# Altium footprint library Symbol.PcbLib: 206 footprints (part 15 of 15)
Each footprint in its own frame and in the unit in brackets; x right, y up, seen from the top. Pads: shape width x height; smd on the part's side, far side on the other; paste and mask are expansions set on the pad; w line width, h text height; cw(c..) or ccw(c..) is an arc to the next point about the centre after c.
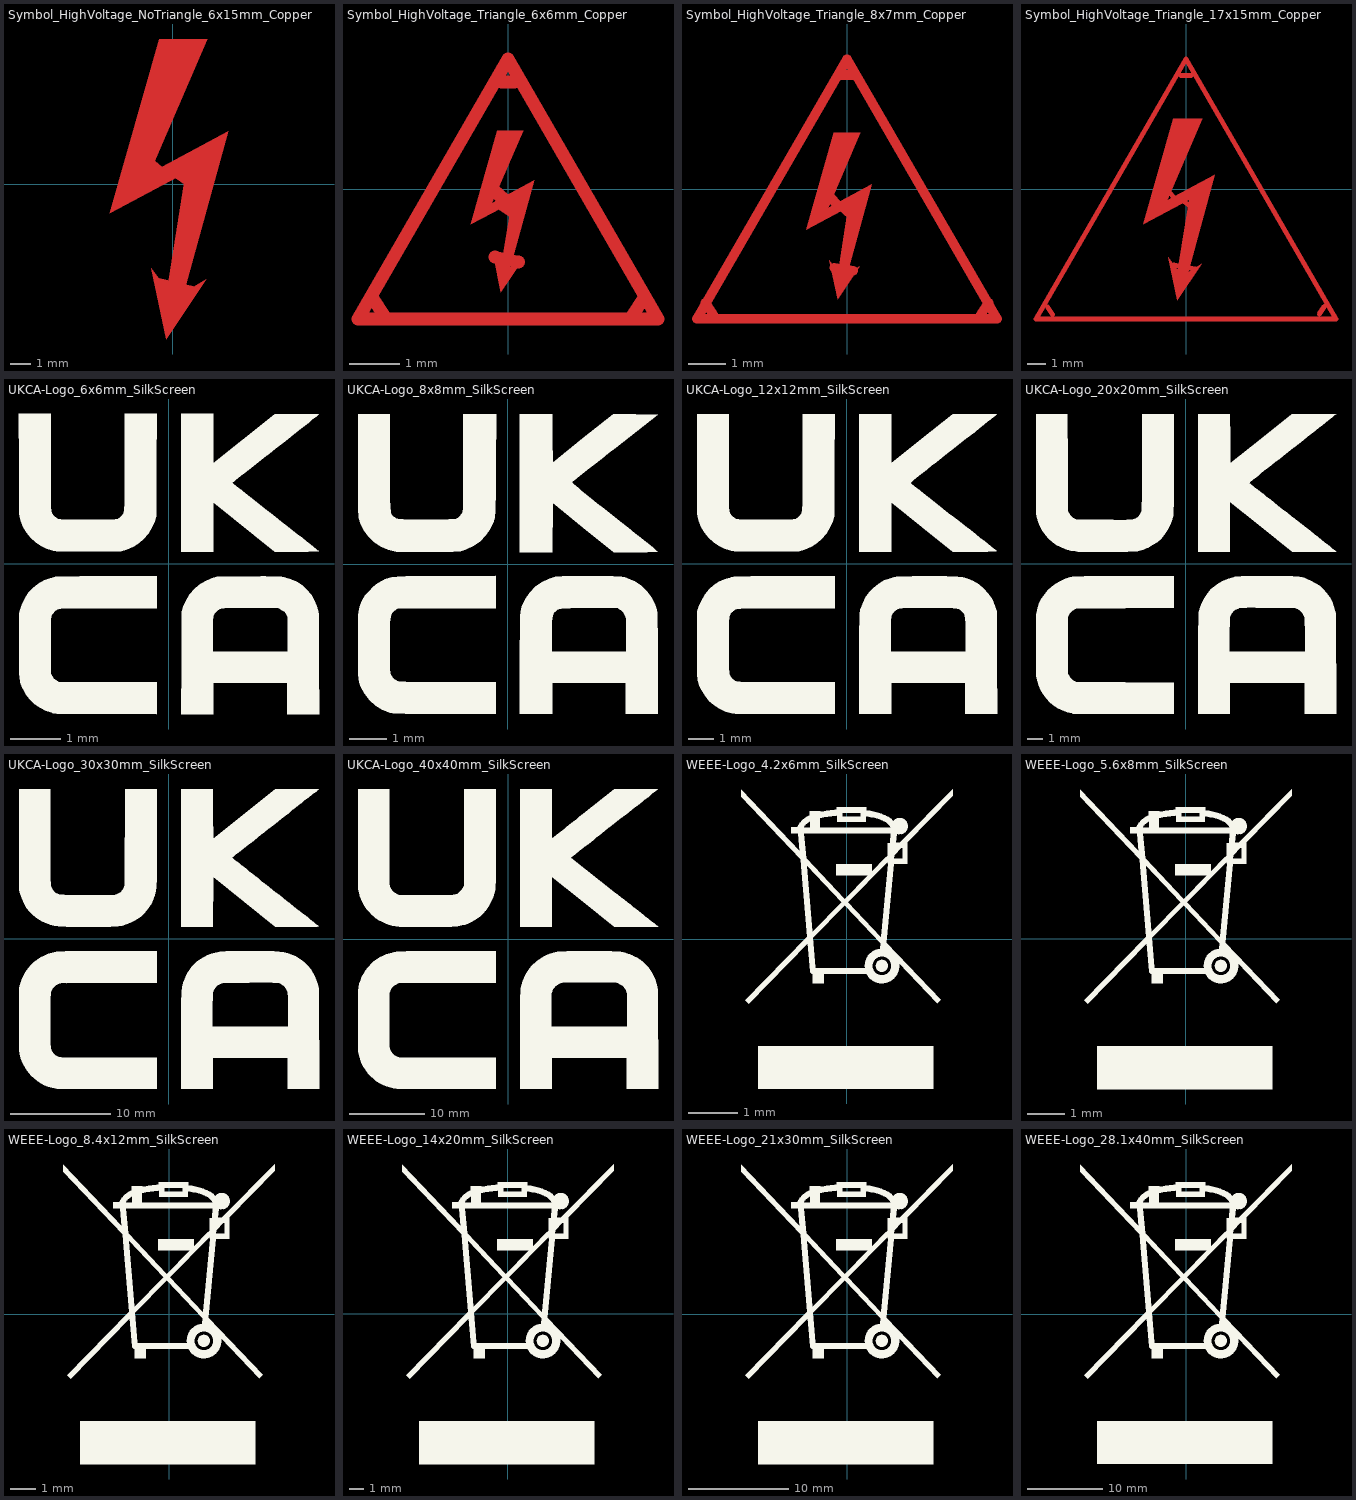
[diagram p14: the footprints below, top view; thin cyan lines are the x and y axes]

## Symbol_HighVoltage_NoTriangle_6x15mm_Copper [mm]
F.Cu:
  region: 1.07,-4.98 -0.333,-7.501 -0.77,-4.54
  region: 0.55,-0.02 0.13,0.28 0.619,0.548
  region: -0.883,1.133 -0.89,1.14 -0.88,1.14
  region: -0.52,0.81 -1.143,0.5 -0.883,1.133
  region: -1.143,0.5 2.667,2.548 0.524,-5.263 1.619,-4.596 -0.333,-7.501 -1.048,-4.072 -0.286,-5.12 0.619,0.548 -3.048,-1.405 -0.667,7.025 1.667,7.025

## Symbol_HighVoltage_Triangle_6x6mm_Copper [mm]
F.Cu:
  region: -0.321,-0.284 0.526,0.171 0.049,-1.565 0.293,-1.416 -0.141,-2.062 -0.3,-1.3 -0.131,-1.533 0.07,-0.273 -0.744,-0.707 -0.215,1.166 0.303,1.166
  lines w0.254: -2.723,-2.155 -2.457,-2.565 ; -0.28,-0.03 -0.08,-0.21 ; -0.26,-1.36 0.21,-1.46 ; -0.135,-0.295 0.115,-0.465 ; -0.125,2.14 0.125,2.14 ; 2.467,-2.565 2.733,-2.155 ; -3,-2.6 0,2.6 3,-2.6 -3,-2.6

## Symbol_HighVoltage_Triangle_8x7mm_Copper [mm]
F.Cu:
  region: -0.5,-0.5 0.664,0.126 0.009,-2.261 0.344,-2.057 -0.253,-2.945 -0.471,-1.897 -0.238,-2.217 0.038,-0.485 -1.082,-1.082 -0.354,1.494 0.359,1.494
  lines w0.254: -3.776,-3.031 -3.51,-3.44 ; -0.45,-0.215 -0.24,-0.44 ; -0.34,-2.095 0.17,-2.185 ; -0.15,3.04 0.16,3.04 ; -0.133,-0.479 0.113,-0.681 ; 3.51,-3.44 3.776,-3.031 ; -4,-3.46 0,3.46 4,-3.46 -4,-3.46

## Symbol_HighVoltage_Triangle_17x15mm_Copper [mm]
F.Cu:
  region: -1,-0.6 1.54,0.765 0.111,-4.442 0.841,-3.997 -0.46,-5.934 -0.937,-3.648 -0.429,-4.346 0.175,-0.568 -2.27,-1.87 -0.683,3.75 0.873,3.75
  lines w0.254: -7.393,-6.285 -7.127,-6.695 ; -0.91,-0.16 -0.63,-0.47 -0.1,-0.66 0.24,-0.93 ; -0.64,-4.05 0.48,-4.27 ; -0.26,6.06 0.26,6.06 ; 7.107,-6.675 7.373,-6.265 ; -8,-6.93 0,6.93 8,-6.93 -8,-6.93

## UKCA-Logo_6x6mm_SilkScreen [mm]
F.SilkS:
  drawing of 4 lines, arcs and shapes, not listed

## UKCA-Logo_8x8mm_SilkScreen [mm]
F.SilkS:
  drawing of 4 lines, arcs and shapes, not listed

## UKCA-Logo_12x12mm_SilkScreen [mm]
F.SilkS:
  drawing of 4 lines, arcs and shapes, not listed

## UKCA-Logo_20x20mm_SilkScreen [mm]
F.SilkS:
  drawing of 4 lines, arcs and shapes, not listed

## UKCA-Logo_30x30mm_SilkScreen [mm]
F.SilkS:
  drawing of 4 lines, arcs and shapes, not listed

## UKCA-Logo_40x40mm_SilkScreen [mm]
F.SilkS:
  drawing of 4 lines, arcs and shapes, not listed

## WEEE-Logo_4.2x6mm_SilkScreen [mm]
F.SilkS:
  drawing of 3 lines, arcs and shapes, not listed

## WEEE-Logo_5.6x8mm_SilkScreen [mm]
F.SilkS:
  drawing of 3 lines, arcs and shapes, not listed

## WEEE-Logo_8.4x12mm_SilkScreen [mm]
F.SilkS:
  drawing of 3 lines, arcs and shapes, not listed

## WEEE-Logo_14x20mm_SilkScreen [mm]
F.SilkS:
  drawing of 3 lines, arcs and shapes, not listed

## WEEE-Logo_21x30mm_SilkScreen [mm]
F.SilkS:
  drawing of 3 lines, arcs and shapes, not listed

## WEEE-Logo_28.1x40mm_SilkScreen [mm]
F.SilkS:
  drawing of 3 lines, arcs and shapes, not listed